# EAGLE library part NE555D (library NE555D)
NE555DG4, Timer, 4.5 to 16V, 8-Pin SOIC-8 To Check Availblity Click Here.! <To be added later>
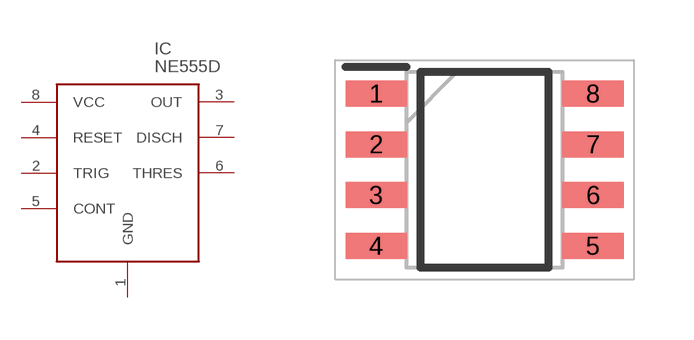
[diagram p0: symbol with the pads of SOIC127P600X175-8N; footprint SOIC127P600X175-8N]

Designator prefix IC

## NE555D (DESCRIPTION: NE555DG4, Timer, 4.5 to 16V, 8-Pin SOIC-8; MFR: Texas Instruments; MFR-PN: NE555D; PACKAGE: 8-SOIC; SUPPLIER: Punoscho.in; SUPPLIER-PN: PU-0106)  [SOIC127P600X175-8N]
1  GND
2  TRIG
3  OUT
4  RESET
5  CONT
6  THRES
7  DISCH
8  VCC

## Footprint SOIC127P600X175-8N (pad centres in mm)
D0008A
smd 1.528 x 0.65: 1 -2.711,1.905; 2 -2.711,0.635; 3 -2.711,-0.635; 4 -2.711,-1.905; 5 2.711,-1.905; 6 2.711,-0.635; 7 2.711,0.635; 8 2.711,1.905